# Altium schematic symbol library POGO adapter.SchLib: 3 symbols
Pins are listed as number, name and electrical type; pins without a type are passive.

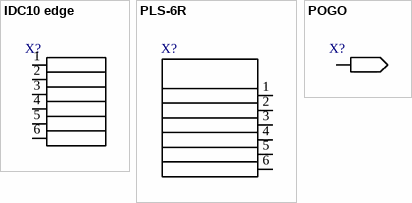
[diagram p0: symbols IDC10 edge to POGO]

## IDC10 edge
designator X?  (value not drawn)
footprint BH-6 edge
pins: 1, 2, 3, 4, 5, 6

## PLS-6R
designator X?
2.00 mm Single-Row Connector THM
footprint PLS-6R
pins: 1, 2, 3, 4, 5, 6

## POGO
designator X?  (value not drawn)
footprint POGO
pins: 1